# EAGLE library part DUALUSB (library dualUSB)
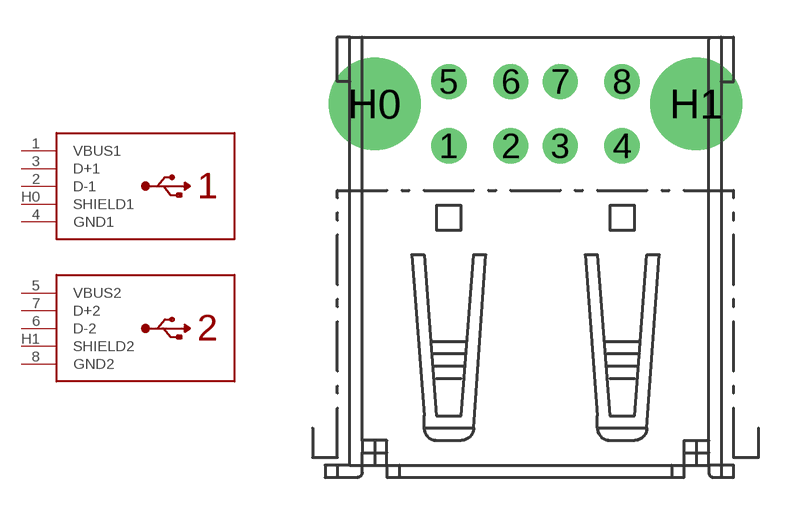
[diagram p0: symbol with the pads of DUALUSB; footprint DUALUSB]

Designator prefix -

## DUALUSB  [DUALUSB]
1  VBUS1
2  D-1
3  D+1
4  GND1
5  VBUS2
6  D-2
7  D+2
8  GND2
H0  SHIELD1
H1  SHIELD2

## Footprint DUALUSB (pad centres in mm)
drill 0.92: 1 -3.5,1.4; 2 -1,1.4; 3 1,1.4; 4 3.5,1.4; 5 -3.5,4; 6 -1,4; 7 1,4; 8 3.5,4
drill 2.7: H0 -6.5,3.1; H1 6.5,3.1